# Altium schematic symbol library Components - 02.09.24 - 11.15.SchLib: 1 symbol
Pins are listed as number, name and electrical type; pins without a type are passive.

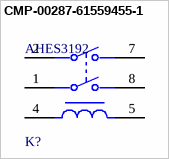
[diagram p0: symbol CMP-00287-61559455-1]

## CMP-00287-61559455-1
designator K?, comment AHES3192
AHES3192 Electromechanical Relay DPDT-NO 35A/1A 24V 306.4Ohm Through Hole, HE-S series; NexarPartId: 61559455; Coil Current: 78mA; Coil Power: 1.88W; Contact Current Rating: 35A; Coil Resistance: 306.4Ω; Release Time: 10ms; Number of Contacts: 2; Coil Type: Non-Latching; Operate Time: 30ms; Relay Type: General Purpose; Switching Current: 40A; Throw Configuration: DPST; Termination: PC Pin; Coil Voltage (DC): 24V; Packaging: Bulk; Max Operating Temperature: 55°C; Mount: Through Hole; Height: 40.3mm; Current Rating: 35A; Contact Material: Silver, Tin; RoHS: Compliant; Ambient Temperature Range High: 70°C; Min Operating Temperature: -40°C
footprint FP-AHES3192-MFG
pins: 1, 2, 4, 5, 7, 8